# EAGLE library part RPI-ZERO (library mylib)
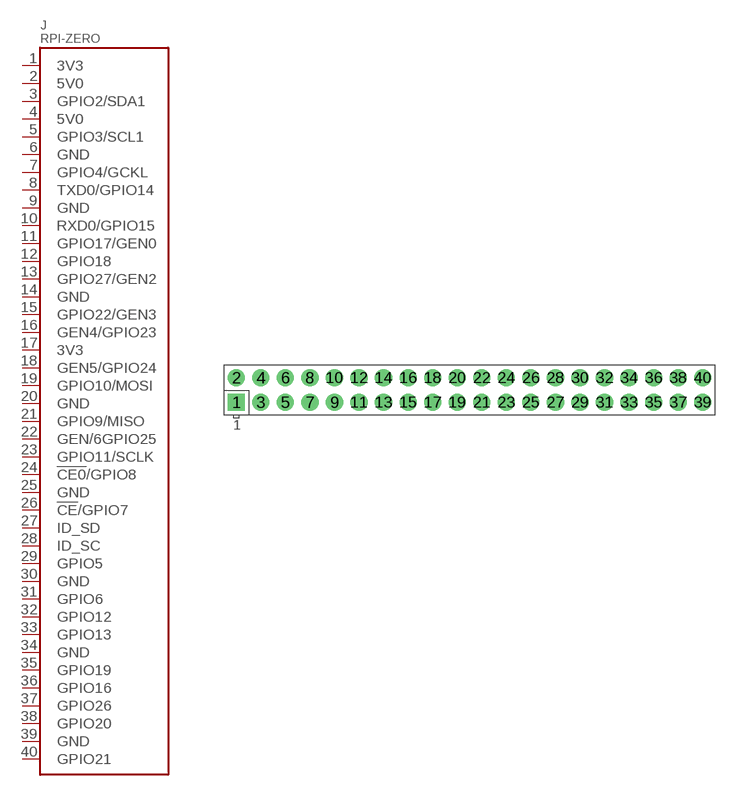
[diagram p1: symbol with the pads of RASPBERRYPI_V13_J8; footprint RASPBERRYPI_V13_J8]

Designator prefix J

## RPI-ZERO  [RASPBERRYPI_V13_J8]
1  3V3  sup
2  5V0  sup
3  GPIO2/SDA1
4  5V0  sup
5  GPIO3/SCL1
6  GND  sup
7  GPIO4/GCKL
8  TXD0/GPIO14
9  GND  sup
10  RXD0/GPIO15
11  GPIO17/GEN0
12  GPIO18
13  GPIO27/GEN2
14  GND  sup
15  GPIO22/GEN3
16  GEN4/GPIO23
17  3V3  sup
18  GEN5/GPIO24
19  GPIO10/MOSI
20  GND  sup
21  GPIO9/MISO
22  GEN/6GPIO25
23  GPIO11/SCLK
24  !CE0!/GPIO8
25  GND  sup
26  !CE!/GPIO7
27  ID_SD
28  ID_SC
29  GPIO5
30  GND  sup
31  GPIO6
32  GPIO12
33  GPIO13
34  GND  sup
35  GPIO19
36  GPIO16
37  GPIO26
38  GPIO20
39  GND  sup
40  GPIO21

## Footprint RASPBERRYPI_V13_J8 (pad centres in mm)
Raspberry Pi board model B+, full outline with position of big connectors & drill holes
drill 1 pad 1.778 square: 1 2.02,-2.71
drill 1 pad 1.778: 2 2.02,-0.17; 3 4.56,-2.71; 4 4.56,-0.17; 5 7.1,-2.71; 6 7.1,-0.17; 7 9.64,-2.71; 8 9.64,-0.17; 9 12.18,-2.71; 10 12.18,-0.17; 11 14.72,-2.71; 12 14.72,-0.17; 13 17.26,-2.71; 14 17.26,-0.17; 15 19.8,-2.71; 16 19.8,-0.17; 17 22.34,-2.71; 18 22.34,-0.17; 19 24.88,-2.71; 20 24.88,-0.17; 21 27.42,-2.71; 22 27.42,-0.17; 23 29.96,-2.71; 24 29.96,-0.17; 25 32.5,-2.71; 26 32.5,-0.17; 27 35.04,-2.71; 28 35.04,-0.17; 29 37.58,-2.71; 30 37.58,-0.17; 31 40.12,-2.71; 32 40.12,-0.17; 33 42.66,-2.71; 34 42.66,-0.17; 35 45.2,-2.71; 36 45.2,-0.17; 37 47.74,-2.71; 38 47.74,-0.17; 39 50.28,-2.71; 40 50.28,-0.17